# Altium schematic symbol library AD8212.Schlib: 1 symbol
Pins are listed as number, name and electrical type; pins without a type are passive.

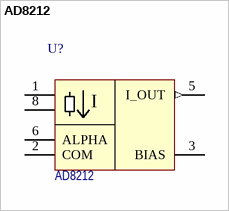
[diagram p0: symbol AD8212]

## AD8212
designator U?
Current shunt monitor; Назначение: Токовый датчик; Потребление, Вт: 0,005; ComponentLink1Description: DataSheet; ComponentLink1URL: https://www.analog.com/media/en/technical-documentation/data-sheets/AD8212.pdf; Наименование: AD8212
footprint MSOP-8
footprint HO2.8-1B_MSOP-8_INV_HOLE
footprint FlatPack-10_MSOP-8
pins: 1 V+ (power), 2 COM (oc), 3 BIAS (oc), 5 I_OUT (out), 6 ALPHA (oc), 8 V_SENSE (power)
text: I